# EAGLE library part TPS61032PWPR (library RTR)
5V Buck-Boost Converter
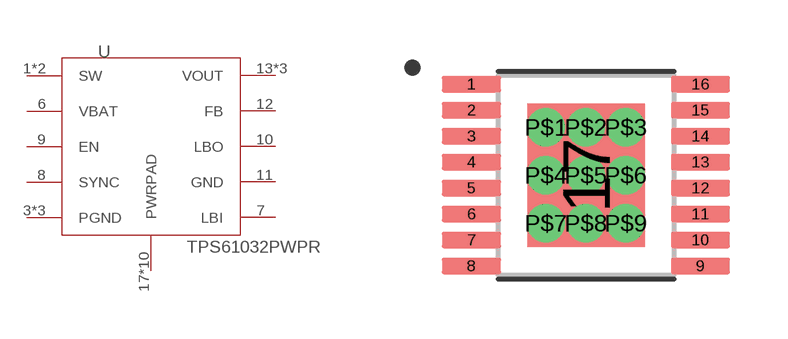
[diagram p6: symbol with the pads of SOP65P640X110-17N; footprint SOP65P640X110-17N]

Designator prefix -

## TPS61032PWPR  [SOP65P640X110-17N]
1  SW
2  SW
3  PGND
4  PGND
5  PGND
6  VBAT
7  LBI
8  SYNC
9  EN
10  LBO
11  GND
12  FB
13  VOUT
14  VOUT
15  VOUT
17  PWRPAD
P$1  PWRPAD
P$2  PWRPAD
P$3  PWRPAD
P$4  PWRPAD
P$5  PWRPAD
P$6  PWRPAD
P$7  PWRPAD
P$8  PWRPAD
P$9  PWRPAD

## Footprint SOP65P640X110-17N (pad centres in mm)
smd 1.48 x 0.41: 1 -2.865,2.275; 2 -2.865,1.625; 3 -2.865,0.975; 4 -2.865,0.325; 5 -2.865,-0.325; 6 -2.865,-0.975; 7 -2.865,-1.625; 8 -2.865,-2.275; 9 2.865,-2.275; 10 2.865,-1.625; 11 2.865,-0.975; 12 2.865,-0.325; 13 2.865,0.325; 14 2.865,0.975; 15 2.865,1.625; 16 2.865,2.275
smd 2.94 x 3.58: 17 0,0
drill 0.45 pad 0.559: P$1 -1,1.2; P$2 0,1.2; P$3 1,1.2; P$4 -1,0; P$5 0,0; P$6 1,0; P$7 -1,-1.2; P$8 0,-1.2; P$9 1,-1.2